# Altium schematic symbol library CBC3105.Schlib: 1 symbol
Pins are listed as number, name and electrical type; pins without a type are passive.

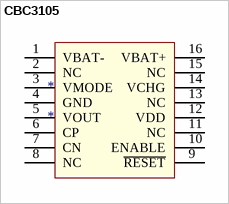
[diagram p0: symbol CBC3105]

## CBC3105
designator *
pins: 1 VBAT-, 2 NC, 3 VMODE, 4 GND, 5 VOUT, 6 CP, 7 CN, 8 NC, 9 ~{RESET}, 10 ENABLE, 11 NC, 12 VDD, 13 NC, 14 VCHG, 15 NC, 16 VBAT+